# Altium footprint library PowerConverters.PcbLib: 12 footprints
Each footprint in its own frame and in the unit in brackets; x right, y up, seen from the top. Pads: shape width x height; smd on the part's side, far side on the other; paste and mask are expansions set on the pad; w line width, h text height; cw(c..) or ccw(c..) is an arc to the next point about the centre after c.
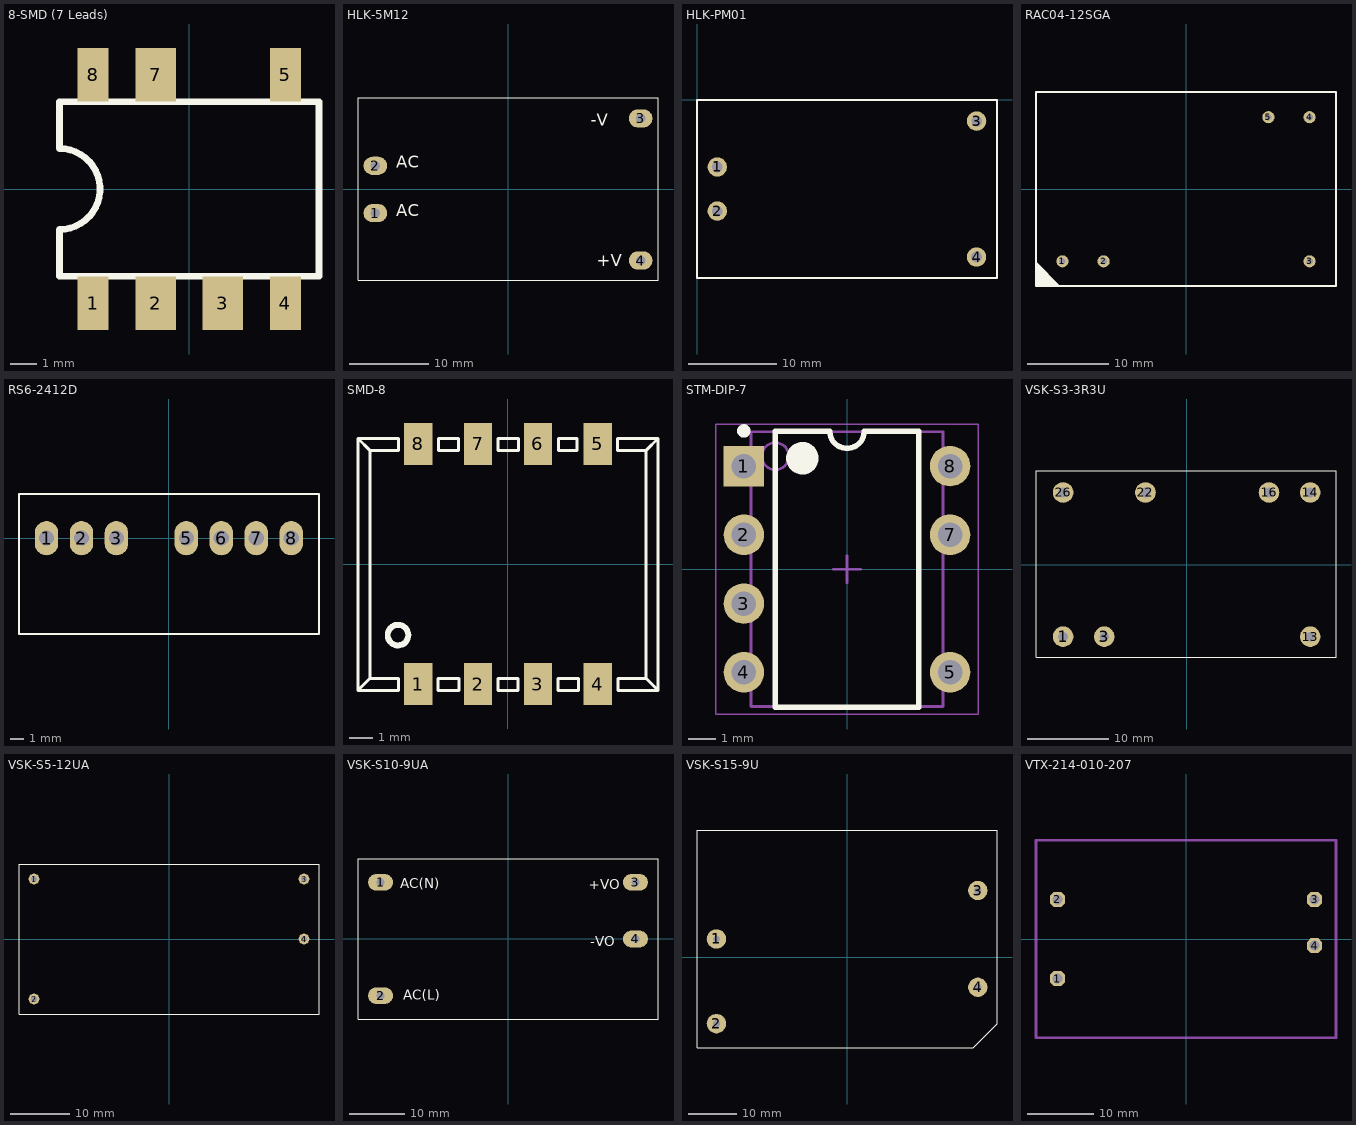
[diagram p0: the footprints below, top view; thin cyan lines are the x and y axes]

## 8-SMD (7 Leads) [mil]
pads (7):
  rect 46x80 smd: 1(-143,-170) 4(143,-170) 5(143,170) 8(-143,170)
  rect 60x80 smd: 2(-50,-170) 3(50,-170) 7(-50,170)
Top Overlay:
  lines w10: -192.91,-129.92 -192.91,-60.22 ccw(c-192.91,0) -192.91,60.22 -192.91,129.92 192.91,129.92 192.91,-129.92 -192.91,-129.92
3D body: height 212.91, standoff -212.91, extent 0,0 0,0
3D body "User Library-SMD-8B.step": height 157.48, standoff 0, extent -192.8,-191.91 195,193.91

## HLK-5M12 [mm]
pads (4):
  oval 3x2.3 hole 1.2: 1(-16.8,-3) 2(-16.8,3) 3(16.8,9) 4(16.8,-9)
Top Overlay:
  lines w0.127: -19,-11.5 -19,11.614 19,11.614 19,-11.5 -19,-11.5
  text "+V" at 11.226,-9.722 h1.52
  text "-V" at 10.464,8.058 h1.52
  text "AC" at -14.174,-3.372 h1.52
  text "AC" at -14.174,2.724 h1.52

## HLK-PM01 [mm]
pads (4):
  round 2.2 hole 1.2: 1(2.3,-7.6) 2(2.3,-12.6) 3(31.7,-2.4) 4(31.688,-17.807)
Top Overlay:
  lines w0.254: 0,-20.193 0,0 34.011,0 34.011,-20.193 0,-20.193
3D body: height 15, standoff 0.1, extent 0.076,-20.168 33.884,0
3D body: height 0.25, standoff 0, extent 16.51,-9.017 16.51,-9.017

## RAC04-12SGA [mm]
pads (5):
  round 1.5 hole 0.8: 1(-15.24,-8.89) 2(-10.16,-8.89) 3(15.24,-8.89) 4(15.24,8.89) 5(10.16,8.89)
Top Overlay:
  region: -18.5,-11.938 -18.5,-8.932 -15.494,-11.938
  lines w0.2: -18.5,-11.938 -15.494,-11.938 18.5,-11.938 18.5,8.89 18.5,12 15.24,12 -18.5,12 -18.5,-8.89 -18.5,-11.938
3D body: height 15, standoff 0, extent -18.5,-11.938 18.5,12
3D body: height 15.1, standoff 0.05, extent -15.736,-9.389 -14.74,-8.391
3D body: height 0, standoff 0, extent 14.943,8.591 15.54,9.19
3D body: height 0, standoff 0, extent 14.943,-9.189 15.54,-8.59
3D body: height 0, standoff 0, extent 9.863,8.591 10.46,9.19
3D body: height 0, standoff 0, extent -15.537,-9.189 -14.94,-8.59
3D body: height 0, standoff 0, extent -10.457,-9.189 -9.86,-8.59
3D body: height 15.05, standoff 0.05, extent -3.659,7.519 -1.856,9.181
3D body: height 15.05, standoff 0.05, extent -6.051,9.511 -2.368,9.791
3D body: height 15.05, standoff 0.05, extent 2.284,9.512 5.967,9.792
3D body: height 15.05, standoff 0.05, extent -6.072,7.519 -4.015,9.182
3D body: height 15.05, standoff 0.05, extent 3.681,7.519 5.967,9.17
3D body: height 15.05, standoff 0.05, extent 1.014,7.519 3.148,9.182
3D body: height 15.05, standoff 0.05, extent -1.881,9.511 1.802,9.791
3D body: height 15.05, standoff 0.05, extent -1.45,7.519 0.532,9.183
3D body: height 15.05, standoff 0.05, extent -6.799,6.806 6.701,10.546

## RS6-2412D [mm]
pads (7):
  oval 1.7x2.5 hole 1.1: 1(-8.89,0) 2(-6.35,0) 3(-3.81,0) 5(1.27,0) 6(3.81,0) 7(6.35,0) 8(8.89,0)
Top Overlay:
  lines w0.127: -10.89,-6.96 -10.89,3.2 10.91,3.2 10.91,-6.96 -10.89,-6.96
3D body: height 11.1, standoff 0.5, extent -10.89,-6.96 10.91,3.2

## SMD-8 [mil]
pads (8):
  rect 47.24x70.87 smd: 1(-150,-200) 2(-50,-200) 3(50,-200) 4(150,-200) 5(150,201.57) 6(50,201.57) 7(-50,201.57) 8(-150,201.57)
Top Overlay:
  circle w10: c-184.06,-118.11 r17.22
  lines w5: -250.98,-210.63 -231.3,-190.94 ; -250.98,-210.63 -183.07,-210.63 -183.07,-190.94 -231.3,-190.94 ; -250.98,-210.63 -250.98,210.63 ; -250.98,210.63 -231.3,190.94 ; -250.98,210.63 -183.07,210.63 -183.07,190.94 -231.3,190.94 ; -231.3,-190.94 -231.3,190.94 ; 231.3,-190.94 250.98,-210.63 ; 231.3,-190.94 231.3,190.94 ; 231.3,-190.94 184.06,-190.94 184.06,-210.63 250.98,-210.63 ; 231.3,190.94 250.98,210.63 ; 231.3,190.94 183.07,190.94 183.07,210.63 250.98,210.63 ; 250.98,-210.63 250.98,210.63 ; -117.13,-210.63 -117.13,-190.94 -81.69,-190.94 -81.69,-210.63 -117.13,-210.63 ; -116.14,190.94 -116.14,210.63 -82.68,210.63 -82.68,190.94 -116.14,190.94 ; -16.73,-210.63 -16.73,-190.94 16.73,-190.94 16.73,-210.63 -16.73,-210.63 ; -16.73,190.94 -16.73,210.63 17.72,210.63 17.72,190.94 -16.73,190.94 ; 83.66,-210.63 83.66,-190.94 118.11,-190.94 118.11,-210.63 83.66,-210.63 ; 84.65,190.94 84.65,210.63 115.16,210.63 115.16,190.94 84.65,190.94
3D body "1W SMD-S5_R1S.STP": height 276.09, standoff 0.5, extent -250.98,-217.51 250.99,219.49

## STM-DIP-7 [mm] "DIP, 7-Leads, Body 10.16x7.1mm, Pitch 2.54mm"
height 5.33
pads (7):
  rect 1.5x1.5 hole 0.9: 1(-3.81,3.81)
  round 1.5 hole 0.9: 2(-3.81,1.27) 3(-3.81,-1.27) 4(-3.81,-3.81) 5(3.81,-3.81) 7(3.81,1.27) 8(3.81,3.81)
Top Overlay:
  circle w0.6: c-1.65,4.1 r0.3
  circle w0.25: c-3.81,5.11 r0.125
  lines w0.2: -2.65,-5.1 2.65,-5.1 2.65,5.1 0.635,5.1 cw(c0,5.1) -0.635,5.1 -2.65,5.1 -2.65,-5.1
Mechanical 13:
  circle w0.1: c-2.65,4.175 r0.5
  lines w0.1: -3.55,-5.075 3.55,-5.075 3.55,5.075 -3.55,5.075 -3.55,-5.075
Mechanical 15:
  lines w0.05: -4.85,-5.35 4.85,-5.35 4.85,5.35 -4.85,5.35 -4.85,-5.35
  lines w0.1: -0.5,0 0.5,0 ; 0,-0.5 0,0.5
3D body "dip7.step": height 4.57, standoff -3.81, extent -3.91,-4.955 3.91,4.955

## VSK-S3-3R3U [mil]
pads (7):
  round 100 hole 47.24: 1(-600,-350) 3(-400,-350) 13(600,-350) 14(600,350) 16(400,350) 22(-200,350) 26(-600,350)
Top Overlay:
  lines w5: -731.5,-450 -731.5,455.51 725.2,455.51 725.2,-450 -731.5,-450
3D body "vsk-s3-3r3u.stp": height 594.49, standoff -161.42, extent -732.28,-448.81 724.42,456.7

## VSK-S5-12UA [mm]
pads (4):
  round 1.8 hole 1: 1(-22.86,10.16) 2(-22.86,-10.16) 3(22.86,10.16) 4(22.86,0)
Top Overlay:
  lines w0.1: -25.4,-12.7 25.4,-12.7 25.4,12.7 -25.4,12.7 -25.4,-12.7
3D body "CUI_VSK-S5-12UA.step": height 15.16, standoff -6, extent -25.4,-12.7 25.4,12.7

## VSK-S10-9UA [mm]
pads (4):
  oval 4.5x3 hole 1.5: 1(-22.86,10.16) 2(-22.86,-10.16) 3(22.86,10.16) 4(22.86,0)
Top Overlay:
  lines w0.16: -26.9,-14.4 -26.9,14.4 26.9,14.4 26.9,-14.4 -26.9,-14.4
  text "AC(N)" at -19.304,9.144 h1.8
  text "AC(L)" at -18.796,-10.922 h1.8
  text "+VO" at 14.478,8.89 h1.8
  text "-VO" at 14.732,-1.27 h1.8
3D body "CUI_VSK-S10-9UA.step": height 19.01, standoff -5.99, extent -26.75,-14.25 26.75,14.25

## VSK-S15-9U [mm]
pads (4):
  round 4 hole 1.5: 1(-27,3.746) 2(-27,-13.754) 3(27,13.754) 4(27,-6.246)
Top Overlay:
  lines w0.1: -31.014,-18.768 -31.014,26.241 30.962,26.241 30.962,-13.815 26.035,-18.743 -31.014,-18.743 -31.014,-18.768
3D body "vsk-s15-9u.stp": height 22.51, standoff -5.99, extent -31.013,-18.754 30.987,26.246

## VTX-214-010-207 [mm]
pads (4):
  oct 2.25x2.25 hole 1.5: 1(-19.5,-6) 2(-19.5,6) 3(19.5,6) 4(19.5,-1)
Mechanical 16:
  lines w0.406: -22.75,-15 22.75,-15 22.75,15 -22.75,15 -22.75,-15
3D body: height 24, standoff 0, extent -22.75,-15.025 22.725,15.026